# EAGLE library part CLP-106-02-F-D (library LT3579_SEPIC_Test_Bench)
12 Position Connector Header, Center Strip Contacts Surface Mount Source: Datasheet <http://suddendocs.samtec.com/prints/erm8-xxx-xx.x-xxx-dv-xxxx-xx-mkt.pdf>
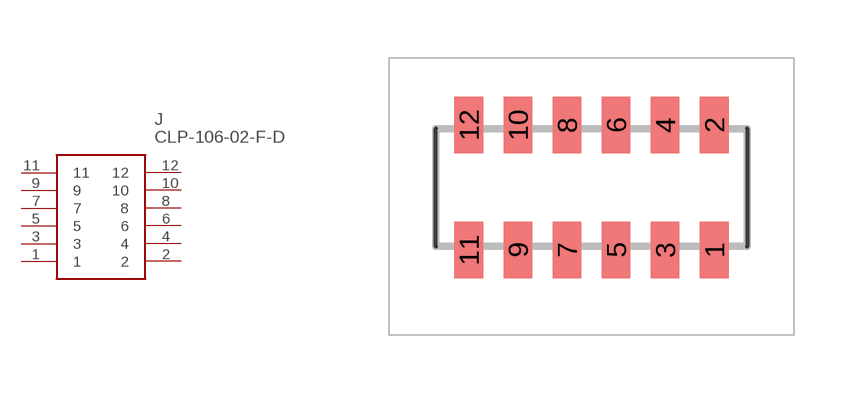
[diagram p0: symbol with the pads of CLP-106-02-XXX; footprint CLP-106-02-XXX]

Designator prefix J

## CLP-106-02-F-D (DESCRIPTION: 12 Position Connector Header, Center Strip Contacts Surface Mount; HEIGHT: mm; MANUFACTURER_NAME: SAMTEC; MANUFACTURER_PART_NUMBER: CLP-106-02-F-D; MOUSER_PART_NUMBER: 200-CLP10602FD; MOUSER_PRICE-STOCK: https://www.mouser.co.uk/ProductDetail/Samtec/CLP-106-02-F-D?qs=0lQeLiL1qybAMPDXLs%252BD8A%3D%3D)  [CLP-106-02-XXX]
1  1
2  2
3  3
4  4
5  5
6  6
7  7
8  8
9  9
10  10
11  11
12  12

## Footprint CLP-106-02-XXX (pad centres in mm)
CLP-106-02-XXX-D
smd 0.74 x 1.47: 1 3.175,-1.615; 2 3.175,1.615; 3 1.905,-1.615; 4 1.905,1.615; 5 0.635,-1.615; 6 0.635,1.615; 7 -0.635,-1.615; 8 -0.635,1.615; 9 -1.905,-1.615; 10 -1.905,1.615; 11 -3.175,-1.615; 12 -3.175,1.615